# EAGLE library part WE-LAN_749020022A (library WE-LAN)
WE-LAN LAN Transformer 1000 Base-T Characteristics Power over Ethernet up to 150 Watts and speeds up to 1 Gbit/s Available in SMD Compliant with standards: IEEE 802.3u, IEEE 802.3ab, IEEE 802.3af, IEEE 802.3at and upcoming IEEE 802.3bt Applications Suitable for industrial temperatures from –40 °C up to +125 °C Compatible to Industrial Ethernet systems like EtherCAT or Profinet Compliant with most IC’s for Ethernet applications such as Microchip, Texas Instruments, Broadcom, Linear Technology Hubs, Routers, Switches, IP cameras, IoT applications <https://katalog.we-online.com/media/images/v2/o14800v209%20WE-LAN%20-%20Kopie.jpg> Details see: https://katalog.we-online.com/en/pbs/WE-LAN Updated by Ella Wu 2019-07-17 2019 (C) Würth Elektronik
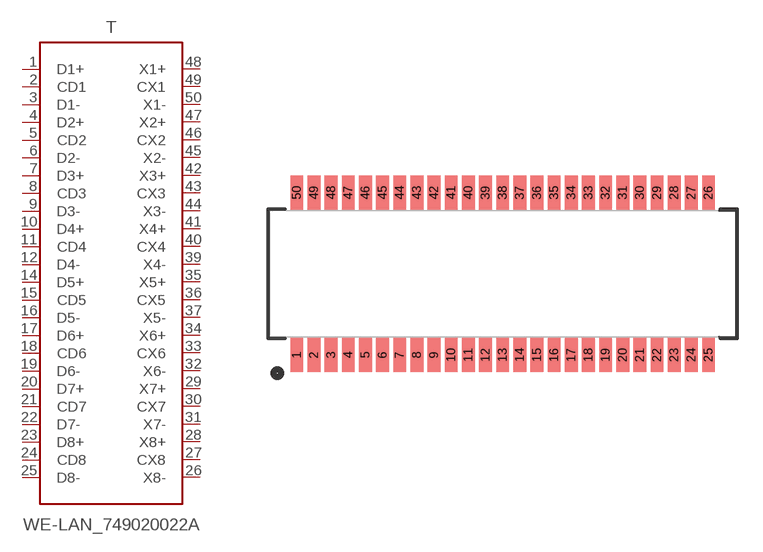
[diagram p2: symbol with the pads of WE-LAN_749020022A; footprint WE-LAN_749020022A]

Designator prefix T

## WE-LAN_749020022A (DATA-RATE: 1000 Base-T; DATASHEET-URL: https://www.we-online.com/catalog/datasheet/749020022A.pdf; HPLE: No; L: 350uH; MOUNT: SMT; PART-NUMBER: 749020022A; POE: non-PoE; PORTS: 2; VALUE: 749020022A; VT: 1500 V (RMS))  [WE-LAN_749020022A]
1  D1+  pas
2  CD1  pas
3  D1-  pas
4  D2+  pas
5  CD2  pas
6  D2-  pas
7  D3+  pas
8  CD3  pas
9  D3-  pas
10  D4+  pas
11  CD4  pas
12  D4-  pas
14  D5+  pas
15  CD5  pas
16  D5-  pas
17  D6+  pas
18  CD6  pas
19  D6-  pas
20  D7+  pas
21  CD7  pas
22  D7-  pas
23  D8+  pas
24  CD8  pas
25  D8-  pas
26  X8-  pas
27  CX8  pas
28  X8+  pas
29  X7+  pas
30  CX7  pas
31  X7-  pas
32  X6-  pas
33  CX6  pas
34  X6+  pas
35  X5+  pas
36  CX5  pas
37  X5-  pas
39  X4-  pas
40  CX4  pas
41  X4+  pas
42  X3+  pas
43  CX3  pas
44  X3-  pas
45  X2-  pas
46  CX2  pas
47  X2+  pas
48  X1+  pas
49  CX1  pas
50  X1-  pas

## Footprint WE-LAN_749020022A (pad centres in mm)
WE-LAN LAN Transformer 1000 Base-T
smd 0.76 x 2.03: 1 -12.24,-4.825; 2 -11.22,-4.825; 3 -10.2,-4.825; 4 -9.18,-4.825; 5 -8.16,-4.825; 6 -7.14,-4.825; 7 -6.12,-4.825; 8 -5.1,-4.825; 9 -4.08,-4.825; 10 -3.06,-4.825; 11 -2.04,-4.825; 12 -1.02,-4.825; 13 0,-4.825; 14 1.02,-4.825; 15 2.04,-4.825; 16 3.06,-4.825; 17 4.08,-4.825; 18 5.1,-4.825; 19 6.12,-4.825; 20 7.14,-4.825; 21 8.16,-4.825; 22 9.18,-4.825; 23 10.2,-4.825; 24 11.22,-4.825; 25 12.24,-4.825; 26 12.24,4.825; 27 11.22,4.825; 28 10.2,4.825; 29 9.18,4.825; 30 8.16,4.825; 31 7.14,4.825; 32 6.12,4.825; 33 5.1,4.825; 34 4.08,4.825; 35 3.06,4.825; 36 2.04,4.825; 37 1.02,4.825; 38 0,4.825; 39 -1.02,4.825; 40 -2.04,4.825; 41 -3.06,4.825; 42 -4.08,4.825; 43 -5.1,4.825; 44 -6.12,4.825; 45 -7.14,4.825; 46 -8.16,4.825; 47 -9.18,4.825; 48 -10.2,4.825; 49 -11.22,4.825; 50 -12.24,4.825